# Altium footprint library SOT95P280X145-5N.PcbLib: 1 footprints
Each footprint in its own frame and in the unit in brackets; x right, y up, seen from the top. Pads: shape width x height; smd on the part's side, far side on the other; paste and mask are expansions set on the pad; w line width, h text height; cw(c..) or ccw(c..) is an arc to the next point about the centre after c.
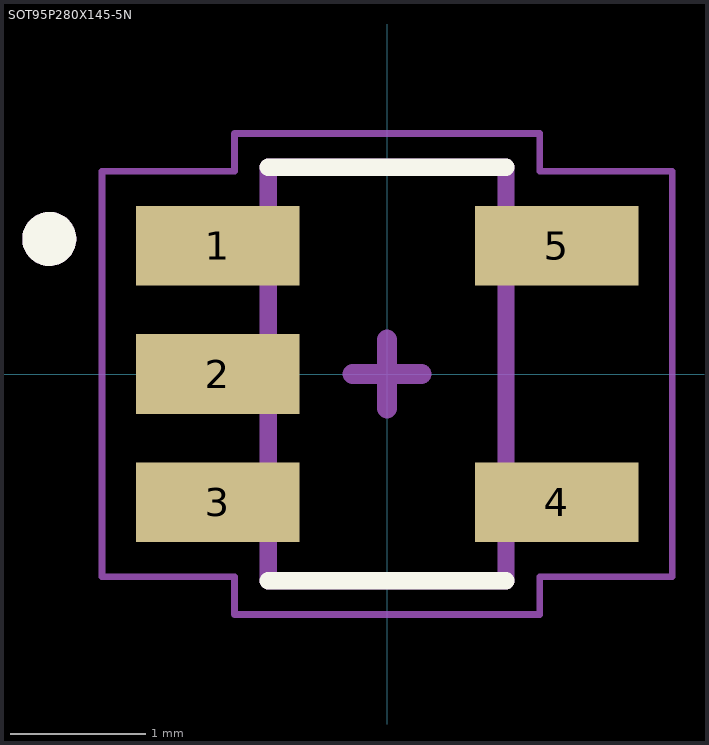
[diagram p0: the footprint, top view; thin cyan lines are the x and y axes]

## SOT95P280X145-5N [mm] "Logic Level Shifter (Single Buffer)"
height 1.45
pads (5):
  rect 1.21x0.59 smd: 1(-1.255,0.95) 2(-1.255,0) 3(-1.255,-0.95) 4(1.255,-0.95) 5(1.255,0.95)
Top Overlay:
  circle w0.2: c-2.5,1 r0.1
  lines w0.127: -0.88,-1.53 0.88,-1.53 ; -0.88,1.53 0.88,1.53
Mechanical 13:
  circle w0.2: c-2.5,1 r0.1
  circle w0.2: c-2.5,1 r0.1
  lines w0.127: -0.88,-1.53 -0.88,1.53 ; -0.88,-1.53 0.88,-1.53 ; -0.88,-1.53 -0.88,1.53 ; -0.88,-1.53 0.88,-1.53 ; -0.88,1.53 0.88,1.53 ; -0.88,1.53 0.88,1.53 ; 0.88,-1.53 0.88,1.53 ; 0.88,-1.53 0.88,1.53
Mechanical 15:
  lines w0.05: -2.11,-1.5 -1.13,-1.5 -1.13,-1.78 1.13,-1.78 1.13,-1.5 2.11,-1.5 2.11,1.5 1.13,1.5 1.13,1.78 -1.13,1.78 -1.13,1.5 -2.11,1.5 -2.11,-1.5
  lines w0.15: -0.254,0 0.254,0 ; 0,-0.254 0,0.254
3D body "SOT95P280X145-5N.STEP": height 1.45, standoff 0, extent -1.4,-1.45 1.4,1.45